# Altium footprint library CUI_TBL008V-1000-03BE.PcbLib: 1 footprints
Each footprint in its own frame and in the unit in brackets; x right, y up, seen from the top. Pads: shape width x height; smd on the part's side, far side on the other; paste and mask are expansions set on the pad; w line width, h text height; cw(c..) or ccw(c..) is an arc to the next point about the centre after c.
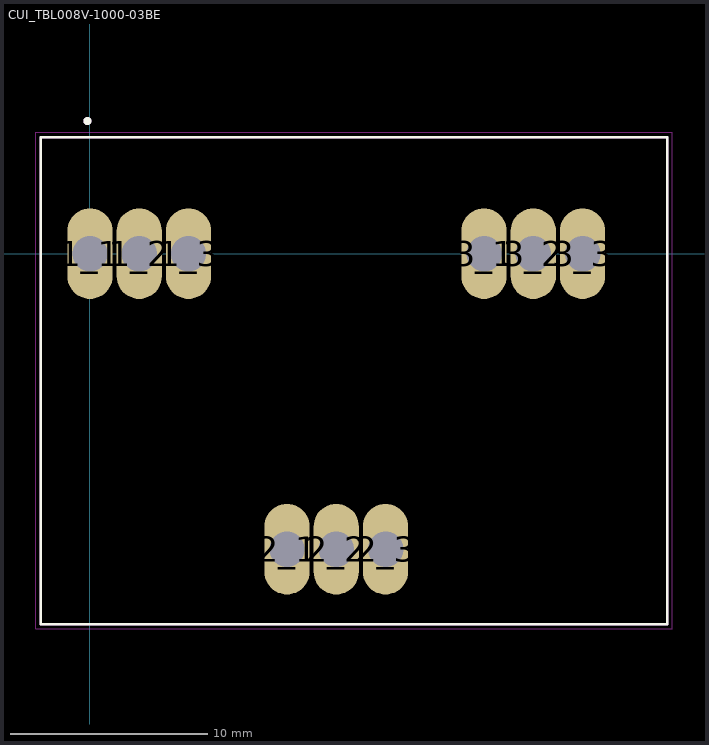
[diagram p0: the footprint, top view; thin cyan lines are the x and y axes]

## CUI_TBL008V-1000-03BE [mm]
pads (9):
  oval 2.3x4.6 hole 1.8: 1_1(0,0) 1_2(2.5,0) 1_3(5,0) 2_1(10,-15) 2_2(12.5,-15) 2_3(15,-15) 3_1(20,0) 3_2(22.5,0) 3_3(25,0)
Top Overlay:
  circle w0.2: c-0.127,6.731 r0.1
  lines w0.127: -2.5,-18.8 -2.5,5.9 29.3,5.9 29.3,-18.8 -2.5,-18.8
Keep-Out Layer:
  lines w0.05: -2.75,-19.05 -2.75,6.15 29.55,6.15 29.55,-19.05 -2.75,-19.05
Mechanical 13:
  circle w0.2: c-0.127,6.731 r0.1
  lines w0.127: -2.5,-18.8 -2.5,5.9 29.3,5.9 29.3,-18.8 -2.5,-18.8